# Altium schematic symbol library Resistor.Schlib: 1 symbol
Pins are listed as number, name and electrical type; pins without a type are passive.

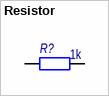
[diagram p0: symbol Resistor]

## Resistor
designator R?, comment value 1k  (hidden comment: OSM R1-8)
Resistor; Наименование: ОСМ Р1-12; Назначение: SMD-резистор; Потребление, Вт: 0,001; Точность: %
footprint SMD_0402
footprint SMD_0603
footprint SMD_0805
footprint SMD_1206
footprint SMD_1206-0805
footprint SMD_6332 (Chip Resistor, Body 6.3x3.2mm, IPC High Density)
footprint SMD_1210
pins: 1, 2